# Altium footprint library Booster.PcbLib: 6 footprints
Each footprint in its own frame and in the unit in brackets; x right, y up, seen from the top. Pads: shape width x height; smd on the part's side, far side on the other; paste and mask are expansions set on the pad; w line width, h text height; cw(c..) or ccw(c..) is an arc to the next point about the centre after c.
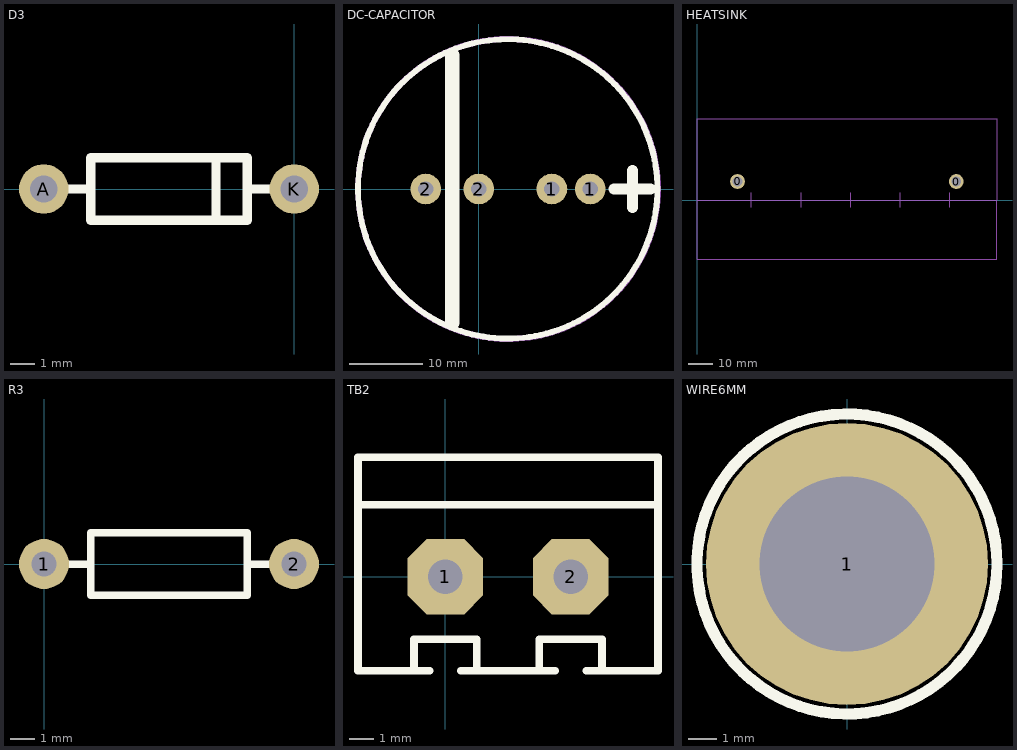
[diagram p0: the footprints below, top view; thin cyan lines are the x and y axes]

## D3 [mil]
pads (2):
  round 79 hole 43.31: A(-400,0) K(0,0)
Top Overlay:
  lines w15: -400,0 -325,0 ; -125,-50 -125,50 ; -75,0 0,0 ; -325,-50 -75,-50 -75,50 -325,50 -325,-50
3D body "DO-204AL-BK.stp": height 188.98, standoff -19.68, extent -415.71,-49.87 15.66,56.43

## DC-CAPACITOR [mm]
pads (4):
  round 4.2 hole 2.1: 1(10,0) 1(15.24,0) 2(-7.239,0) 2(0,0)
Top Overlay:
  circle w0.8: c3.96,0.008 r20.46
  lines w1.5: 18.5,0 23.5,0 ; 21,-2.5 21,2.5
  lines w2: -3.643,-18.288 -3.643,-7.25 -3.643,6.869 -3.643,18.288
Mechanical 16:
  circle w0.8: c4,0 r20.5
  lines w0.2: 20.492,0 21.508,0 ; 21,-0.508 21,0.508
Mechanical 29:
  text "'.Designator''" at -4.699,-19.812 h0.7
3D body: height 12.7, standoff 0, extent -16.9,-20.9 24.9,20.9

## HEATSINK [mm]
pads (2):
  round 6 hole 4: 0(16.408,7.544) 0(105.004,7.493)
Mechanical 1:
  lines w0.2: 22,-3 22,3 ; 42.2,-3 42.2,3 ; 62.3,-3 62.3,3 ; 82.4,-3 82.4,3 ; 102.3,-3 102.3,3 ; 121.44,-24.029 0,-24 0,0 ; 121.44,-0.029 0,0 ; 121.5,-24 121.5,0 121.5,33 0,33 0,0
3D body: height 80, standoff 2, extent -0.001,0 121.336,33.02
3D body: height 80, standoff 45, extent 0,-24.003 121.5,0

## R3 [mil]
pads (2):
  round 80 hole 39.37: 1(0,0) 2(400,0)
Top Overlay:
  lines w12: 0,0 75,0 ; 325,0 400,0 ; 75,-50 325,-50 325,50 75,50 75,-50
3D body "RES-0.25W-H-CF.stp": height 106.3, standoff -98.43, extent -10.82,-50.18 410.74,52.18

## TB2 [mil]
pads (2):
  oct 120x120 hole 55.12: 1(0,0) 2(200,0)
Top Overlay:
  lines w12: -139.37,115 339.37,115 ; -50,-150 -50,-100 50,-100 50,-150 ; -25,-150 -139.37,-150 -139.37,75 -139.37,190.75 339.37,190.75 339.37,75 339.37,-150 225,-150 ; 25,-150 175,-150 ; 150,-150 150,-100 250,-100 250,-150

## WIRE6MM [mm]
pads (1):
  round 10 hole 6.2: 1(0,0)
Top Overlay:
  circle w0.4: c0,0 r5.318